# EAGLE library part ICM-20789 (library ICM-20789)
MOTION SENSOR IC
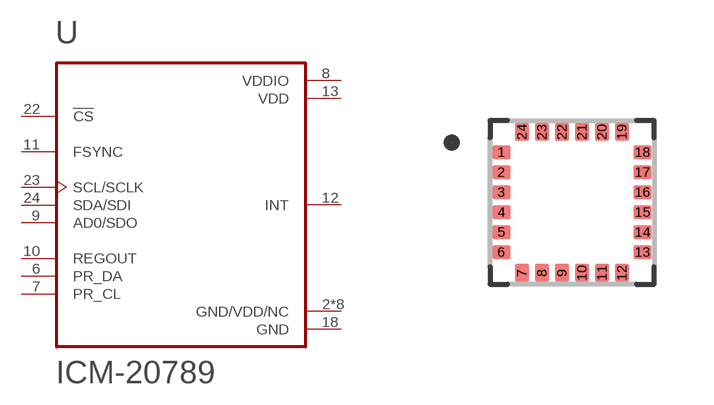
[diagram p0: symbol with the pads of PQFN50P400X400X146-24N; footprint PQFN50P400X400X146-24N]

Designator prefix U

## ICM-20789 (Description: Sensor I²C Output; Digi-Key_Part_Number: 1428-1133-1-ND; MF: TDK InvenSense; MP: ICM-20789; Package: PQFN-24 TDK-InvenSense; Purchase-URL: https://pricing.snapeda.com/search/part/ICM-20789/?ref=eda)  [PQFN50P400X400X146-24N]
2  GND/VDD/NC  pwr
3  GND/VDD/NC  pwr
4  GND/VDD/NC  pwr
5  GND/VDD/NC  pwr
6  PR_DA
7  PR_CL
8  VDDIO  pwr
9  AD0/SDO
10  REGOUT  pas
11  FSYNC  in
12  INT  out
13  VDD  pwr
14  GND/VDD/NC  pwr
15  GND/VDD/NC  pwr
16  GND/VDD/NC  pwr
17  GND/VDD/NC  pwr
18  GND  pwr
22  !CS  in
23  SCL/SCLK  in
24  SDA/SDI

## Footprint PQFN50P400X400X146-24N (pad centres in mm)
smd 0.45 x 0.35: 1 -1.765,1.25; 2 -1.765,0.75; 3 -1.765,0.25; 4 -1.765,-0.25; 5 -1.765,-0.75; 6 -1.765,-1.25; 13 1.765,-1.25; 14 1.765,-0.75; 15 1.765,-0.25; 16 1.765,0.25; 17 1.765,0.75; 18 1.765,1.25
smd 0.35 x 0.45: 7 -1.25,-1.765; 8 -0.75,-1.765; 9 -0.25,-1.765; 10 0.25,-1.765; 11 0.75,-1.765; 12 1.25,-1.765; 19 1.25,1.765; 20 0.75,1.765; 21 0.25,1.765; 22 -0.25,1.765; 23 -0.75,1.765; 24 -1.25,1.765